# Altium schematic symbol library mechanical_ITS_v1.SchLib: 1 symbol
Pins are listed as number, name and electrical type; pins without a type are passive.

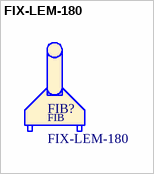
[diagram p0: symbol FIX-LEM-180]

## FIX-LEM-180
designator FIB?
LED fiber; ITSN: FIB_FIX-LEM-180_A001
footprint FIX-LEM-180 (LED  fiber)
text: FIB